# Altium footprint library MY_PCB_Lib.PcbLib: 310 footprints (part 11 of 20)
Each footprint in its own frame and in the unit in brackets; x right, y up, seen from the top. Pads: shape width x height; smd on the part's side, far side on the other; paste and mask are expansions set on the pad; w line width, h text height; cw(c..) or ccw(c..) is an arc to the next point about the centre after c.
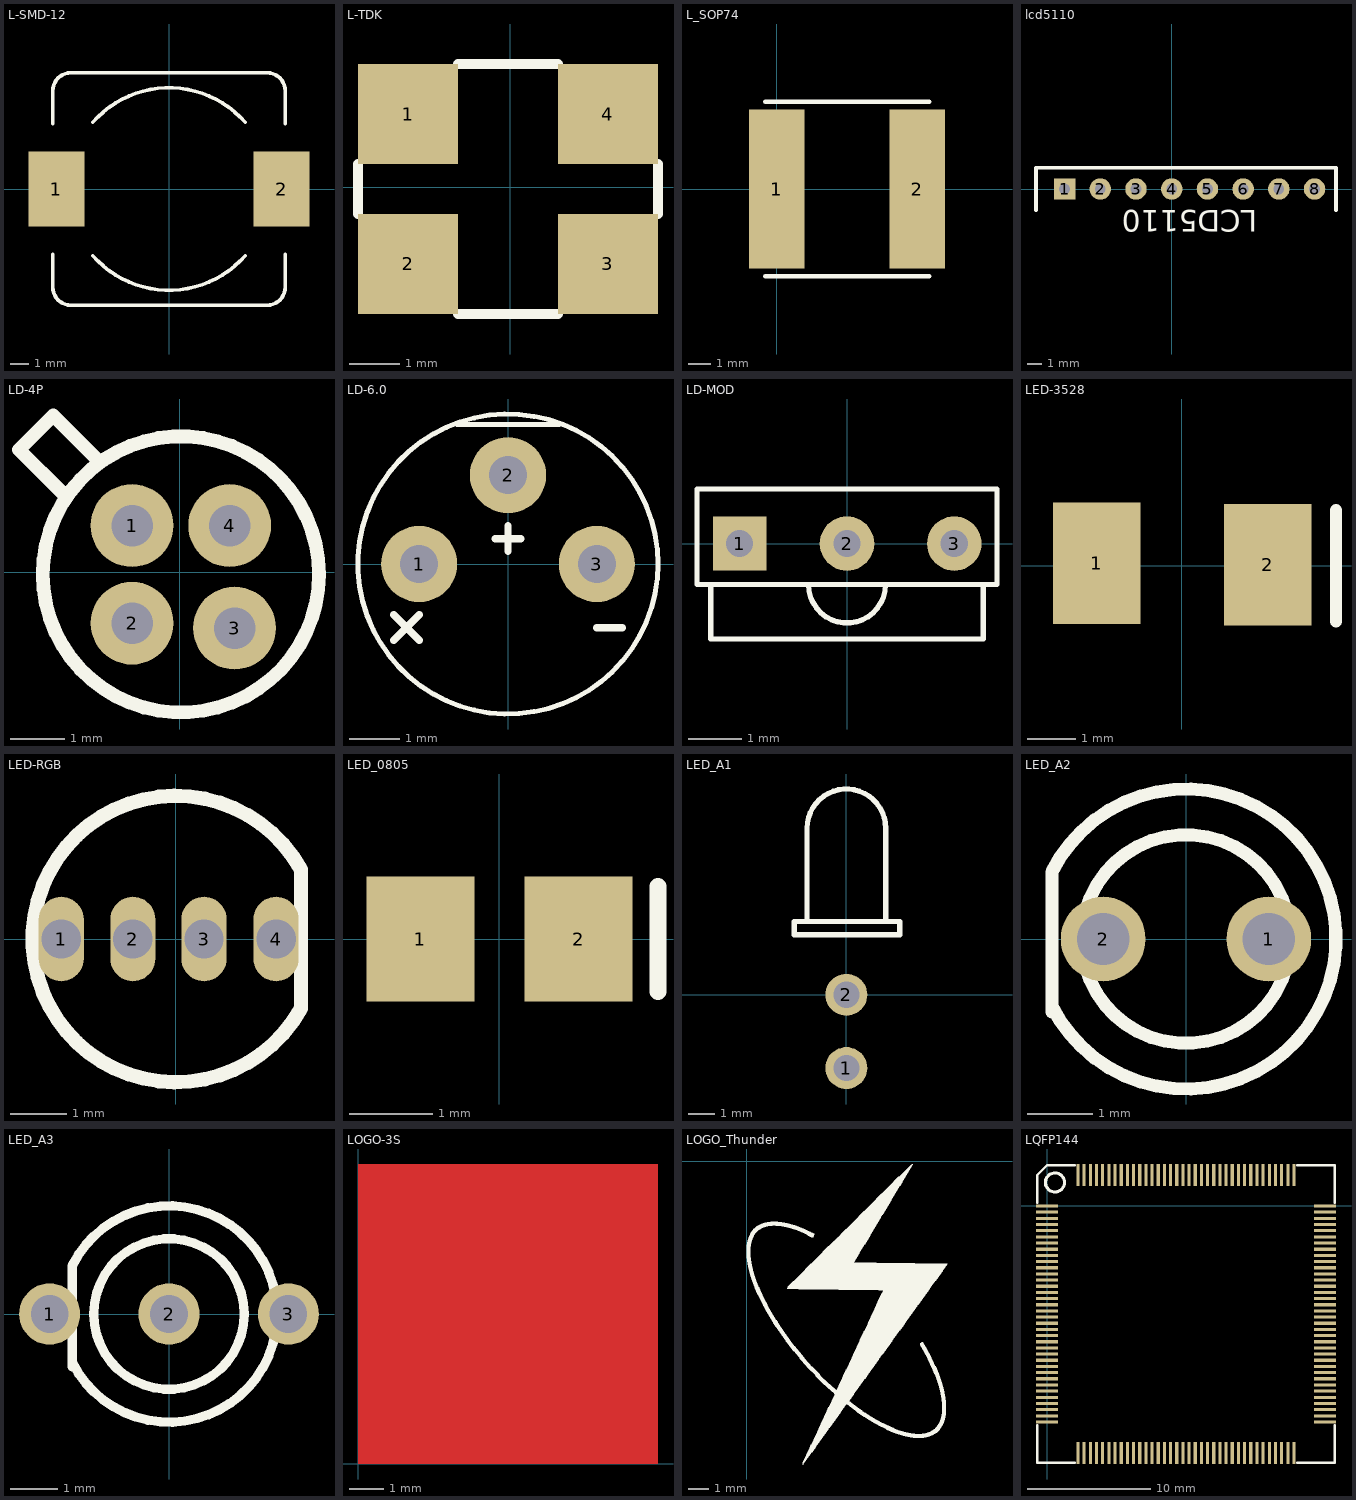
[diagram p10: the footprints below, top view; thin cyan lines are the x and y axes]

## L-SMD-12 [mm] "贴片电感12*12"
height 4
pads (2):
  rect 3x4 smd: 1(-6,0) 2(6,0)
Top Overlay:
  lines w0.2: -6.2,-3.475 -6.2,-5.23 ccw(c-5.23,-5.23) -5.23,-6.2 5.23,-6.2 ccw(c5.23,-5.23) 6.2,-5.23 6.2,-3.475 ; -6.2,3.475 -6.2,5.23 cw(c-5.23,5.23) -5.23,6.2 5.23,6.2 cw(c5.23,5.23) 6.2,5.23 6.2,3.475 ; -4.064,-3.556 ccw(c0,0) 4.064,-3.556 ; -4.064,3.556 cw(c0,0) 4.064,3.556
3D body: height 2.5, standoff 0.3, extent -5.273,-5.303 5.315,5.29
3D body: height 0.6, standoff 0, extent -6.198,-6.223 6.198,6.172

## L-TDK [mm]
height 10
pads (4):
  rect 2x2 smd: 1(-2.048,1.46) 2(-2.048,-1.54) 3(1.952,-1.54) 4(1.952,1.46)
Top Overlay:
  lines w0.2: -3.048,-0.54 -3.048,0.46 ; -1.048,-2.54 0.952,-2.54 ; -1.048,2.46 0.952,2.46 ; 2.952,-0.54 2.952,0.46

## L_SOP74 [mm]
pads (2):
  rect 2.5x7.2 smd: 1(0,0) 2(6.35,0)
Top Overlay:
  lines w0.203: -0.508,-3.937 6.892,-3.937 ; -0.508,3.937 6.892,3.937

## lcd5110 [mil]
pads (8):
  rect 60x60 hole 30: 1(-300,0)
  round 60 hole 30: 2(-200,0) 3(-100,0) 4(0,0) 5(100,0) 6(200,0) 7(300,0) 8(400,0)
Top Overlay:
  lines w10: -380,-60 -380,60 460,60 460,-60
  text "LCD5110" at 240,-60 h60

## LD-4P [mil]
pads (4):
  round 60 hole 30: 1(-34.71,33.93) 2(-34.71,-36.78) 3(39.54,-40.33) 4(35.98,33.92)
Top Overlay:
  circle w10: c0.64,-1.43 r100
  lines w9.84: -84.75,57.04 -116.57,88.86 -91.82,113.61 -60,81.79

## LD-6.0 [mil] "激光直?"
height 511.81
pads (3):
  round 60 hole 30: 1(-70,0) 2(0,70) 3(70,0)
Top Overlay:
  circle w3.94: c0,0 r118.11
  lines w3.94: -40,110 40,110
  lines w5.91: -90,-60 -70,-40 ; -90,-40 -70,-60 ; -10,20 10,20 ; 0,10 0,30 ; 70,-50 90,-50

## LD-MOD [mm] "激光"
height 5
pads (3):
  rect 1x1 hole 0.5: 1(-2,0)
  round 1.016 hole 0.5: 2(0,0)
  round 1.016 hole 0.508: 3(2,0)
Top Overlay:
  lines w0.1: -2.54,-0.762 -2.54,-1.778 2.54,-1.778 2.54,-0.762 ; -0.718,-0.762 ccw(c0,-0.762) 0.718,-0.762 ; -2.794,-0.762 2.794,-0.762 2.794,1.016 -2.794,1.016 -2.794,-0.762

## LED-3528 [mm] "贴片二极管"
height 3
pads (2):
  rect 1.8x2.5 smd: 1(-1.753,0.052) 2(1.772,0.027)
Top Overlay:
  lines w0.254: 3.175,-1.143 3.175,1.143

## LED-RGB [mm] "三基色二极管"
height 6
pads (4):
  oval 0.8x1.5 hole 0.7: 1(-2.032,0) 2(-0.762,0) 3(0.5,0) 4(1.778,0)
Top Overlay:
  lines w0.254: 2.22,-1.234 cw(c0,0) 2.22,1.234 2.22,-1.234

## LED_0805 [mm] "贴片二极管"
height 1.1
pads (2):
  rect 1.3x1.5 smd: 1(-0.95,0) 2(0.95,0)
Top Overlay:
  lines w0.2: 1.905,-0.635 1.905,0.635

## LED_A1 [mm] "直径3MM二极管"
height 3.5
pads (2):
  round 1.6 hole 1: 1(0,-2.794) 2(0,0)
Top Overlay:
  lines w0.2: -1.5,2.852 -1.5,6.35 cw(c0,6.35) 1.5,6.35 1.5,2.852 ; -1.984,2.286 2.032,2.286 2.032,2.794 -1.984,2.794 -1.984,2.286

## LED_A2 [mm] "直径3MM二极管"
height 5.5
pads (2):
  round 1.3 hole 0.8: 1(1.27,0) 2(-1.27,0)
Top Overlay:
  circle w0.2: c0,0 r1.6
  lines w0.2: -2.057,-1.118 -2.057,1.029 cw(c0,0) -2.057,-1.029

## LED_A3 [mm] "直径3MM二极管"
height 5.5
pads (3):
  round 1.3 hole 0.8: 1(-2.54,0) 2(0,0) 3(2.54,0)
Top Overlay:
  circle w0.2: c0,0 r1.6
  lines w0.2: -2.057,-1.118 -2.057,1.029 cw(c0,0) -2.057,-1.029

## LOGO-3S [mm]
Top Layer:
  rectangle: 0,0 8.8,8.8
Top Paste:
  circle w1.8: c4.399,4.401 r1.206
  region: 0.203,2.813 2.515,2.813 2.62,2.707 2.709,2.618 2.856,2.491 3.065,2.336 3.371,2.172 3.614,2.078 3.851,2.015 4.117,1.966 4.359,1.95 4.607,1.954 4.874,1.996 5.092,2.052 5.389,2.162 5.606,2.287 5.846,2.43 6.228,2.786 8.473,2.786 8.473,2.787 8.397,2.529 8.283,2.239 8.089,1.886 7.898,1.591 7.641,1.298 7.313,0.995 6.914,0.706 6.524,0.507 6.101,0.348 5.721,0.252 5.216,0.196 0.203,0.196
  region: 0.257,5.8 2.394,5.8 2.304,5.672 2.215,5.504 2.154,5.378 2.095,5.22 2.078,5.162 0.202,4.84 0.202,5.101 0.216,5.429 0.239,5.703
  region: 8.596,5.988 6.284,5.988 6.178,6.094 6.09,6.183 5.942,6.31 5.733,6.465 5.428,6.629 5.185,6.723 4.948,6.786 4.682,6.835 4.44,6.851 4.192,6.847 3.924,6.805 3.706,6.749 3.41,6.639 3.193,6.514 2.953,6.371 2.571,6.015 0.326,6.015 0.326,6.014 0.402,6.272 0.516,6.562 0.71,6.915 0.901,7.21 1.158,7.503 1.485,7.806 1.885,8.095 2.274,8.294 2.698,8.453 3.078,8.549 3.583,8.605 8.596,8.605
  region: 8.525,2.993 6.389,2.993 6.478,3.12 6.568,3.288 6.629,3.414 6.687,3.573 6.705,3.63 8.581,3.953 8.581,3.692 8.566,3.364 8.543,3.09
  region: 8.587,4.147 6.823,4.147 6.831,4.195 6.838,4.282 6.842,4.385 6.84,4.497 6.831,4.6 6.815,4.654 8.587,4.654
  region: 0.203,4.654 1.967,4.654 1.96,4.606 1.952,4.519 1.948,4.416 1.95,4.304 1.96,4.201 1.976,4.147 0.203,4.147
  region: 6.398,5.8 8.576,5.8 8.576,5.137 6.795,4.828 6.77,4.979 6.734,5.098 6.697,5.204 6.619,5.406 6.534,5.58
  region: 2.383,2.992 0.205,2.992 0.205,3.655 1.987,3.964 2.012,3.813 2.047,3.694 2.084,3.589 2.162,3.386 2.247,3.212
Top Solder:
  circle w1.8: c4.398,4.403 r1.206
  region: 0.202,2.815 2.514,2.815 2.62,2.709 2.709,2.62 2.856,2.493 3.065,2.338 3.37,2.174 3.613,2.08 3.85,2.017 4.116,1.968 4.358,1.952 4.606,1.956 4.874,1.998 5.092,2.054 5.388,2.164 5.605,2.289 5.845,2.432 6.228,2.788 8.472,2.788 8.472,2.789 8.396,2.531 8.282,2.241 8.088,1.888 7.897,1.593 7.64,1.3 7.313,0.997 6.913,0.708 6.524,0.509 6.1,0.35 5.72,0.254 5.215,0.198 0.202,0.198
  region: 0.257,5.802 2.393,5.802 2.304,5.674 2.214,5.506 2.153,5.38 2.095,5.222 2.077,5.164 0.201,4.842 0.201,5.103 0.216,5.431 0.239,5.705
  region: 8.595,5.99 6.283,5.99 6.178,6.096 6.089,6.185 5.942,6.312 5.733,6.467 5.427,6.631 5.184,6.725 4.947,6.788 4.681,6.837 4.439,6.853 4.191,6.849 3.924,6.807 3.706,6.751 3.409,6.641 3.192,6.516 2.952,6.373 2.57,6.017 0.325,6.017 0.325,6.016 0.401,6.274 0.515,6.564 0.709,6.917 0.9,7.212 1.157,7.505 1.485,7.808 1.884,8.097 2.274,8.296 2.697,8.455 3.077,8.551 3.582,8.607 8.595,8.607
  region: 8.524,2.995 6.388,2.995 6.477,3.122 6.567,3.29 6.628,3.416 6.687,3.575 6.704,3.632 8.58,3.955 8.58,3.694 8.565,3.366 8.542,3.092
  region: 8.587,4.149 6.823,4.149 6.83,4.197 6.838,4.284 6.841,4.387 6.839,4.499 6.83,4.602 6.814,4.656 8.587,4.656
  region: 0.203,4.656 1.967,4.656 1.959,4.608 1.952,4.521 1.948,4.418 1.95,4.306 1.959,4.203 1.975,4.149 0.203,4.149
  region: 6.397,5.802 8.575,5.802 8.575,5.139 6.794,4.83 6.769,4.981 6.734,5.1 6.697,5.206 6.619,5.408 6.533,5.582
  region: 2.383,2.994 0.205,2.994 0.205,3.657 1.986,3.966 2.011,3.815 2.046,3.696 2.083,3.591 2.161,3.388 2.247,3.214

## LOGO_Thunder [mm]
Top Overlay:
  drawing of 2284 lines, arcs and shapes, not listed

## LQFP144 [mm]
pads (144):
  rect 1.8x0.254 smd: 1(-0.009,0.001) 2(-0.009,-0.499) 3(-0.009,-0.999) 4(-0.009,-1.499) 5(-0.009,-1.999) 6(-0.009,-2.499) 7(-0.009,-2.999) 8(-0.009,-3.499) 9(-0.009,-3.999) 10(-0.009,-4.499) 11(-0.009,-4.999) 12(-0.009,-5.499) 13(-0.009,-5.999) 14(-0.009,-6.499) 15(-0.009,-6.999) 16(-0.009,-7.499) 17(-0.009,-7.999) 18(-0.009,-8.499) 19(-0.009,-8.999) 20(-0.009,-9.499) 21(-0.009,-9.999) 22(-0.009,-10.499) 23(-0.009,-10.999) 24(-0.009,-11.499) 25(-0.009,-11.999) 26(-0.009,-12.499) 27(-0.009,-12.999) 28(-0.009,-13.499) 29(-0.009,-13.999) 30(-0.009,-14.499) 31(-0.009,-14.999) 32(-0.009,-15.499) 33(-0.009,-15.999) 34(-0.009,-16.499) 35(-0.009,-16.999) 36(-0.009,-17.499) 73(22.491,-17.499) 74(22.491,-16.999) 75(22.491,-16.499) 76(22.491,-15.999) 77(22.491,-15.499) 78(22.491,-14.999) 79(22.491,-14.499) 80(22.491,-13.999) 81(22.491,-13.499) 82(22.491,-12.999) 83(22.491,-12.499) 84(22.491,-11.999) 85(22.491,-11.499) 86(22.491,-10.999) 87(22.491,-10.499) 88(22.491,-9.999) 89(22.491,-9.499) 90(22.491,-8.999) 91(22.491,-8.499) 92(22.491,-7.999) 93(22.491,-7.499) 94(22.491,-6.999) 95(22.491,-6.499) 96(22.491,-5.999) 97(22.491,-5.499) 98(22.491,-4.999) 99(22.491,-4.499) 100(22.491,-3.999) 101(22.491,-3.499) 102(22.491,-2.999) 103(22.491,-2.499) 104(22.491,-1.999) 105(22.491,-1.499) 106(22.491,-0.999) 107(22.491,-0.499) 108(22.491,0.001)
  rect 0.254x1.8 smd: 37(2.491,-19.999) 38(2.991,-19.999) 39(3.491,-19.999) 40(3.991,-19.999) 41(4.491,-19.999) 42(4.991,-19.999) 43(5.491,-19.999) 44(5.991,-19.999) 45(6.491,-19.999) 46(6.991,-19.999) 47(7.491,-19.999) 48(7.991,-19.999) 49(8.491,-19.999) 50(8.991,-19.999) 51(9.491,-19.999) 52(9.991,-19.999) 53(10.491,-19.999) 54(10.991,-19.999) 55(11.491,-19.999) 56(11.991,-19.999) 57(12.491,-19.999) 58(12.991,-19.999) 59(13.491,-19.999) 60(13.991,-19.999) 61(14.491,-19.999) 62(14.991,-19.999) 63(15.491,-19.999) 64(15.991,-19.999) 65(16.491,-19.999) 66(16.991,-19.999) 67(17.491,-19.999) 68(17.991,-19.999) 69(18.491,-19.999) 70(18.991,-19.999) 71(19.491,-19.999) 72(19.991,-19.999) 109(19.991,2.501) 110(19.491,2.501) 111(18.991,2.501) 112(18.491,2.501) 113(17.991,2.501) 114(17.491,2.501) 115(16.991,2.501) 116(16.491,2.501) 117(15.991,2.501) 118(15.491,2.501) 119(14.991,2.501) 120(14.491,2.501) 121(13.991,2.501) 122(13.491,2.501) 123(12.991,2.501) 124(12.491,2.501) 125(11.991,2.501) 126(11.491,2.501) 127(10.991,2.501) 128(10.491,2.501) 129(9.991,2.501) 130(9.491,2.501) 131(8.991,2.501) 132(8.491,2.501) 133(7.991,2.501) 134(7.491,2.501) 135(6.991,2.501) 136(6.491,2.501) 137(5.991,2.501) 138(5.491,2.501) 139(4.991,2.501) 140(4.491,2.501) 141(3.991,2.501) 142(3.491,2.501) 143(2.991,2.501) 144(2.491,2.501)
Top Overlay:
  circle w0.254: c0.624,1.905 r0.773
  lines w0.2: -0.809,-17.749 -0.809,-20.799 2.241,-20.799 ; -0.809,0.251 -0.809,2.501 -0.009,3.301 2.241,3.301 ; 20.241,-20.799 23.291,-20.799 23.291,-17.749 ; 20.241,3.301 23.291,3.301 23.291,0.251